# Altium footprint library Acquisition-System.PcbLib: 7 footprints
Each footprint in its own frame and in the unit in brackets; x right, y up, seen from the top. Pads: shape width x height; smd on the part's side, far side on the other; paste and mask are expansions set on the pad; w line width, h text height; cw(c..) or ccw(c..) is an arc to the next point about the centre after c.
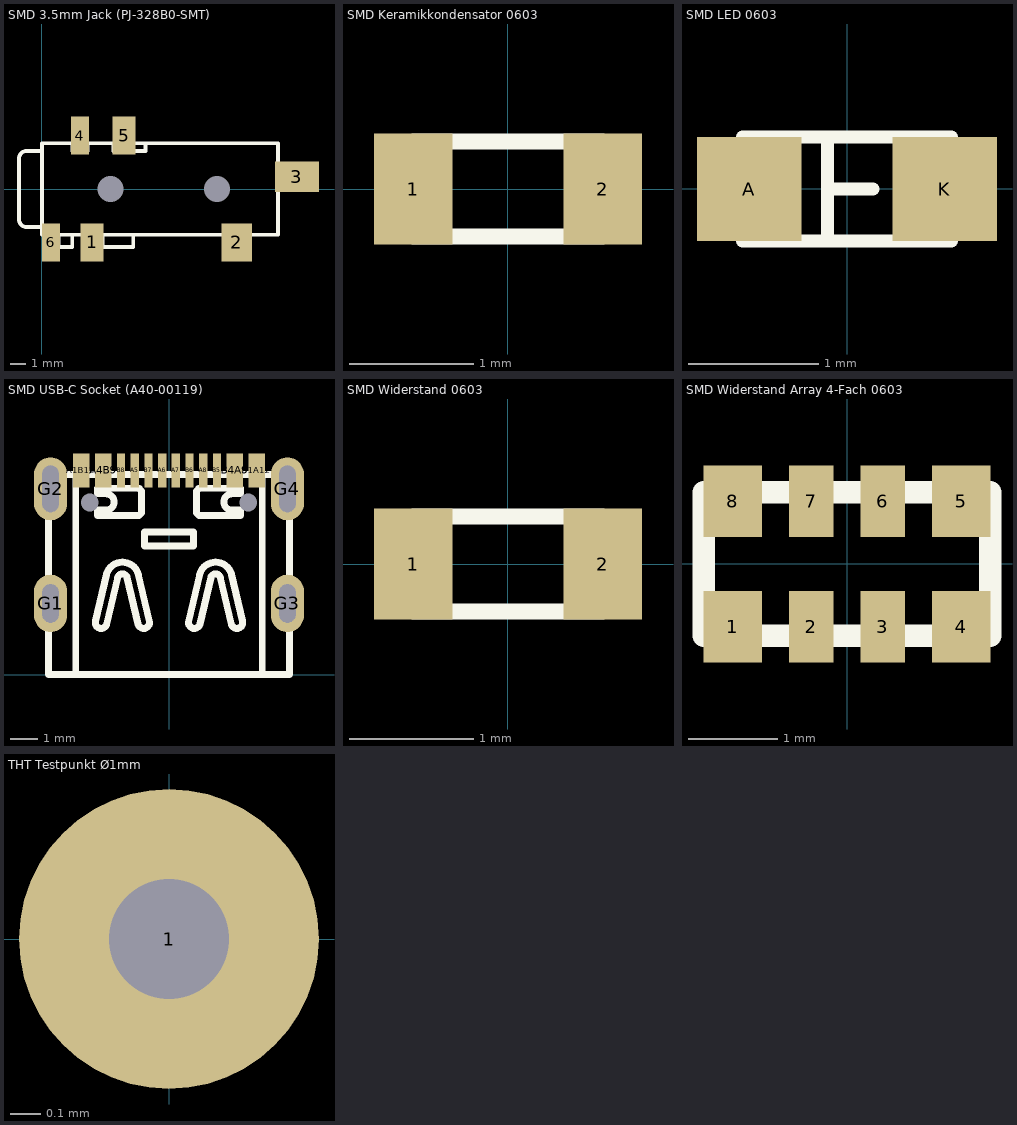
[diagram p0: the footprints below, top view; thin cyan lines are the x and y axes]

## SMD 3.5mm Jack (PJ-328B0-SMT) [mm]
pads (8):
  rect 1.5x2.5 smd: 1(3.3,-3.5) 5(5.4,3.5)
  rect 2x2.5 smd: 2(12.8,-3.5)
  rect 2.9x2 smd: 3(16.75,0.8)
  rect 1.2x2.5 smd: 4(2.5,3.5) 6(0.6,-3.5)
  round 0 hole 1.7 unplated: NC(4.5,0) NC(11.5,0)
Top Overlay:
  lines w0.254: 1.1,-3 1.1,-3.8 2,-3.8 2,-3 ; 4,-3 4,-3.8 6,-3.8 6,-3 ; 4.7,3 4.7,2.5 6.8,2.5 6.8,3 ; 0,-2.5 -1,-2.5 cw(c-1,-2) -1.5,-2 -1.5,0 -1.5,2 cw(c-1,2) -1,2.5 0,2.5 ; 0,-2.5 0,-3 15.5,-3 15.5,0 15.5,3 3,3 3,2.5 2,2.5 2,3 0,3 0,2.5 ; 0,-2.5 0,0 0,2.5
3D body "CUI_DEVICES_SJ-43516-SMT-TR.x_t": height 5.08, standoff -0.92, extent -1.5,-4.5 18,4.5

## SMD Keramikkondensator 0603 [mil]
height 66.93
pads (2):
  rect 25x35 smd: 1(-30,0) 2(30,0)
Top Overlay:
  lines w5: -30,-15 30,-15 30,15 -30,15 -30,-15
3D body "User Library-0603_Cap.STEP": height 31.69, standoff 0, extent -31.49,-15.74 31.5,15.75

## SMD LED 0603 [mm] "SMD_LED_RED"
height 8.65
pads (2):
  rect 0.8x0.8 smd: A(-0.75,0) K(0.75,0)
Top Overlay:
  lines w0.1: -0.15,-0.4 -0.15,0.4 ; -0.15,0 0.2,0 ; -0.8,-0.4 -0.8,0.4 0.8,0.4 0.8,-0.4 -0.8,-0.4
3D body "User Library-LED SMD0603.step": height 0.68, standoff 0, extent -0.808,-0.368 0.842,0.357

## SMD USB-C Socket (A40-00119) [mm]
pads (18):
  rect 0.6x1.25 smd: A1B12(-3.2,7.45) A4B9(-2.4,7.45) B1A12(3.2,7.45) B4A9(2.4,7.45)
  rect 0.3x1.25 smd: A5(-1.25,7.45) A6(-0.25,7.45) A7(0.25,7.45) A8(1.25,7.45) B5(1.75,7.45) B6(0.75,7.45) B7(-0.75,7.45) B8(-1.75,7.45)
  oval 1.2x2.1 hole 0.6 slot 1.4 at 90 deg: G1(-4.32,2.6) G3(4.32,2.6)
  oval 1.2x2.3 hole 0.6 slot 1.7 at 90 deg: G2(-4.32,6.78) G4(4.32,6.78)
  round 0 hole 0.65 unplated: NC(-2.89,6.28) NC(2.89,6.28)
Top Overlay:
  lines w0.254: -3.5,0 -3.4,0 -3.4,7.3 ; 3.4,7.3 3.4,0 3.5,0 ; -4.4,0 -4.375,0 0,0 4.375,0 4.4,0 4.4,7.3 0,7.3 -4.4,7.3 -4.4,0 ; -2.68,1.965 ccw(c-2.476,1.902) -2.27,1.85 -1.871,3.547 cw(c-1.7,3.5) -1.7,3.677 cw(c-1.7,3.5) -1.529,3.547 -1.13,1.85 ccw(c-0.924,1.902) -0.72,1.965 -1.12,3.662 ccw(c-1.7,3.5) -1.7,4.102 ccw(c-1.7,3.5) -2.28,3.662 -2.68,1.965 ; -2.6,5.8 -2.6,6 -2.3,6 ccw(c-2.3,6.3) -2,6.3 ccw(c-2.3,6.3) -2.3,6.6 -2.6,6.6 -2.6,6.8 -1.1,6.8 -1,6.7 -1,5.9 -1.1,5.8 -2.6,5.8 ; -0.9,4.7 -0.9,5.2 0,5.2 0.9,5.2 0.9,4.7 0,4.7 -0.9,4.7 ; 0.72,1.965 ccw(c0.924,1.902) 1.13,1.85 1.529,3.547 cw(c1.7,3.5) 1.7,3.677 cw(c1.7,3.5) 1.871,3.547 2.27,1.85 ccw(c2.476,1.902) 2.68,1.965 2.28,3.662 ccw(c1.7,3.5) 1.7,4.102 ccw(c1.7,3.5) 1.12,3.662 0.72,1.965 ; 1,5.9 1.1,5.8 2.6,5.8 2.6,6 2.3,6 cw(c2.3,6.3) 2,6.3 cw(c2.3,6.3) 2.3,6.6 2.6,6.6 2.6,6.8 1.1,6.8 1,6.7 1,5.9
3D body "USB - C.x_t": height 3.26, standoff -1, extent -4.475,0 4.475,7.75

## SMD Widerstand 0603 [mil]
height 66.93
pads (2):
  rect 25x35 smd: 1(-30,0) 2(30,0)
Top Overlay:
  lines w5: -30,-15 -30,15 30,15 30,-15 -30,-15
3D body "User Library-Panasonic0603.step": height 17.72, standoff 0, extent -31.5,-16.14 31.5,16.14

## SMD Widerstand Array 4-Fach 0603 [mm]
pads (8):
  rect 0.65x0.8 smd: 1(-1.275,-0.7) 4(1.275,-0.7) 5(1.275,0.7) 8(-1.275,0.7)
  rect 0.5x0.8 smd: 2(-0.4,-0.7) 3(0.4,-0.7) 6(0.4,0.7) 7(-0.4,0.7)
Top Overlay:
  lines w0.254: -1.6,-0.8 -1.6,0.8 1.6,0.8 1.6,-0.8 -1.6,-0.8
3D body "User Library-R-0603-Array-4-1.step": height 0.51, standoff -0.01, extent -1.6,-0.8 1.6,0.8

## THT Testpunkt Ø1mm [mm]
pads (1):
  round 1 hole 0.4: 1(0,0)